# Altium footprint library DF634P396DSA.PcbLib: 1 footprints
Each footprint in its own frame and in the unit in brackets; x right, y up, seen from the top. Pads: shape width x height; smd on the part's side, far side on the other; paste and mask are expansions set on the pad; w line width, h text height; cw(c..) or ccw(c..) is an arc to the next point about the centre after c.
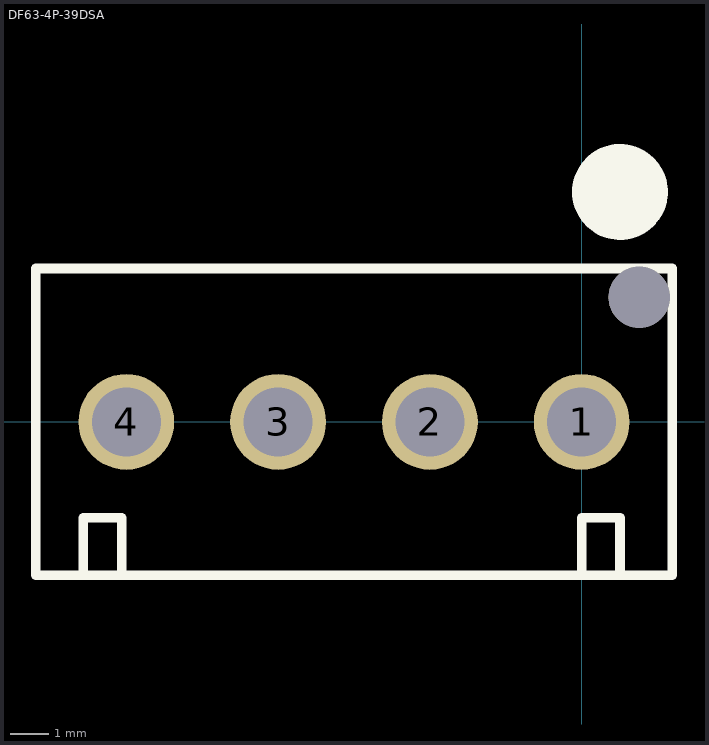
[diagram p0: the footprint, top view; thin cyan lines are the x and y axes]

## DF63-4P-39DSA [mm]
pads (5):
  round 2.5 hole 1.8: 1(0,0) 2(-3.96,0) 3(-7.92,0) 4(-11.88,0)
  round 1.6 hole 1.6 unplated: ""(1.5,3.25)
Top Overlay:
  circle w1.5: c1,6 r0.5
  lines w0.254: -13,-4 -13,-2.5 -12,-2.5 -12,-4 ; 0,-4 0,-2.5 1,-2.5 1,-4 ; -14.24,-4 2.36,-4 2.36,4 -14.24,4 -14.24,-4
3D body "DF63M-4P-3.96DSA.stp": height 10, standoff -3.5, extent -14.29,-4 2.29,4